# EAGLE library part ATSAMD21 (library esbd-chips)
ATSAMD21 MicroChip A low-power, high-performance Microchip's ARM® Cortex®-M0+ based flash microcontroller, ideal for a wide range of home automation, consumer, metering, and industrial applications. https://www.microchip.com/en-us/product/ATsamd21g18
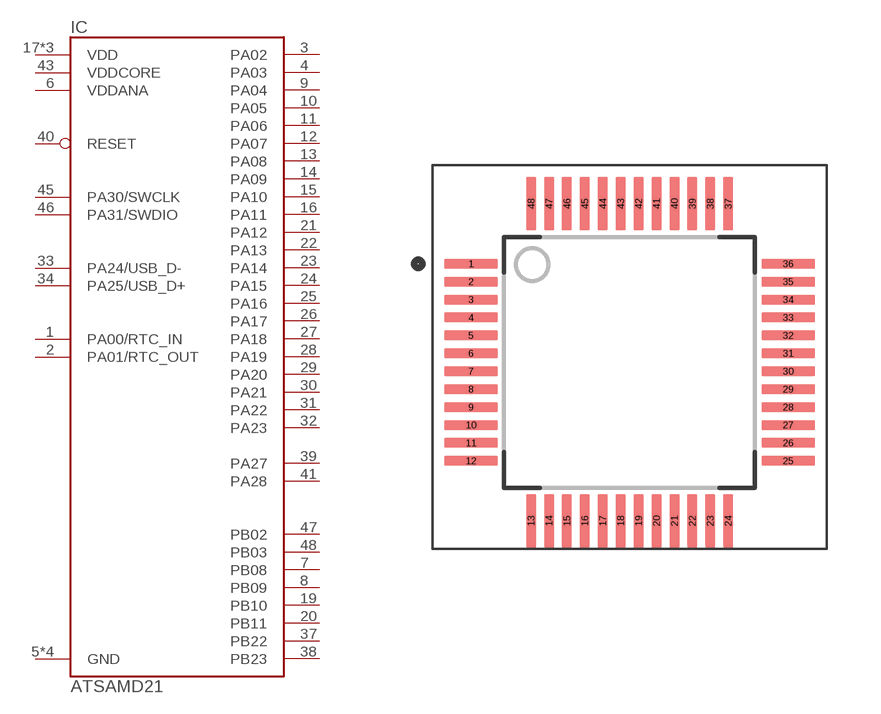
[diagram p15: symbol with the pads of LQFP48_7.00X7.00MM; footprint LQFP48_7.00X7.00MM]

Designator prefix IC

## ATSAMD21G18A  [LQFP48_7.00X7.00MM]
1  PA00/RTC_IN
2  PA01/RTC_OUT
3  PA02
4  PA03
5  GND
6  VDDANA
7  PB08
8  PB09
9  PA04
10  PA05
11  PA06
12  PA07
13  PA08
14  PA09
15  PA10
16  PA11
17  VDD
18  GND
19  PB10
20  PB11
21  PA12
22  PA13
23  PA14
24  PA15
25  PA16
26  PA17
27  PA18
28  PA19
29  PA20
30  PA21
31  PA22
32  PA23
33  PA24/USB_D-
34  PA25/USB_D+
35  GND
36  VDD
37  PB22
38  PB23
39  PA27
40  RESET  in
41  PA28
42  GND
43  VDDCORE
44  VDD
45  PA30/SWCLK
46  PA31/SWDIO
47  PB02
48  PB03

## Footprint LQFP48_7.00X7.00MM (pad centres in mm)
https://www.nxp.com/docs/en/package-information/SOT313-2.pdf
smd 1.5 x 0.28: 1 -4.425,2.75; 2 -4.425,2.25; 3 -4.425,1.75; 4 -4.425,1.25; 5 -4.425,0.75; 6 -4.425,0.25; 7 -4.425,-0.25; 8 -4.425,-0.75; 9 -4.425,-1.25; 10 -4.425,-1.75; 11 -4.425,-2.25; 12 -4.425,-2.75; 25 4.425,-2.75; 26 4.425,-2.25; 27 4.425,-1.75; 28 4.425,-1.25; 29 4.425,-0.75; 30 4.425,-0.25; 31 4.425,0.25; 32 4.425,0.75; 33 4.425,1.25; 34 4.425,1.75; 35 4.425,2.25; 36 4.425,2.75
smd 0.28 x 1.5: 13 -2.75,-4.425; 14 -2.25,-4.425; 15 -1.75,-4.425; 16 -1.25,-4.425; 17 -0.75,-4.425; 18 -0.25,-4.425; 19 0.25,-4.425; 20 0.75,-4.425; 21 1.25,-4.425; 22 1.75,-4.425; 23 2.25,-4.425; 24 2.75,-4.425; 37 2.75,4.425; 38 2.25,4.425; 39 1.75,4.425; 40 1.25,4.425; 41 0.75,4.425; 42 0.25,4.425; 43 -0.25,4.425; 44 -0.75,4.425; 45 -1.25,4.425; 46 -1.75,4.425; 47 -2.25,4.425; 48 -2.75,4.425